# Altium footprint library footprints.PCBLIB: 199 footprints (part 12 of 13)
Each footprint in its own frame and in the unit in brackets; x right, y up, seen from the top. Pads: shape width x height; smd on the part's side, far side on the other; paste and mask are expansions set on the pad; w line width, h text height; cw(c..) or ccw(c..) is an arc to the next point about the centre after c.
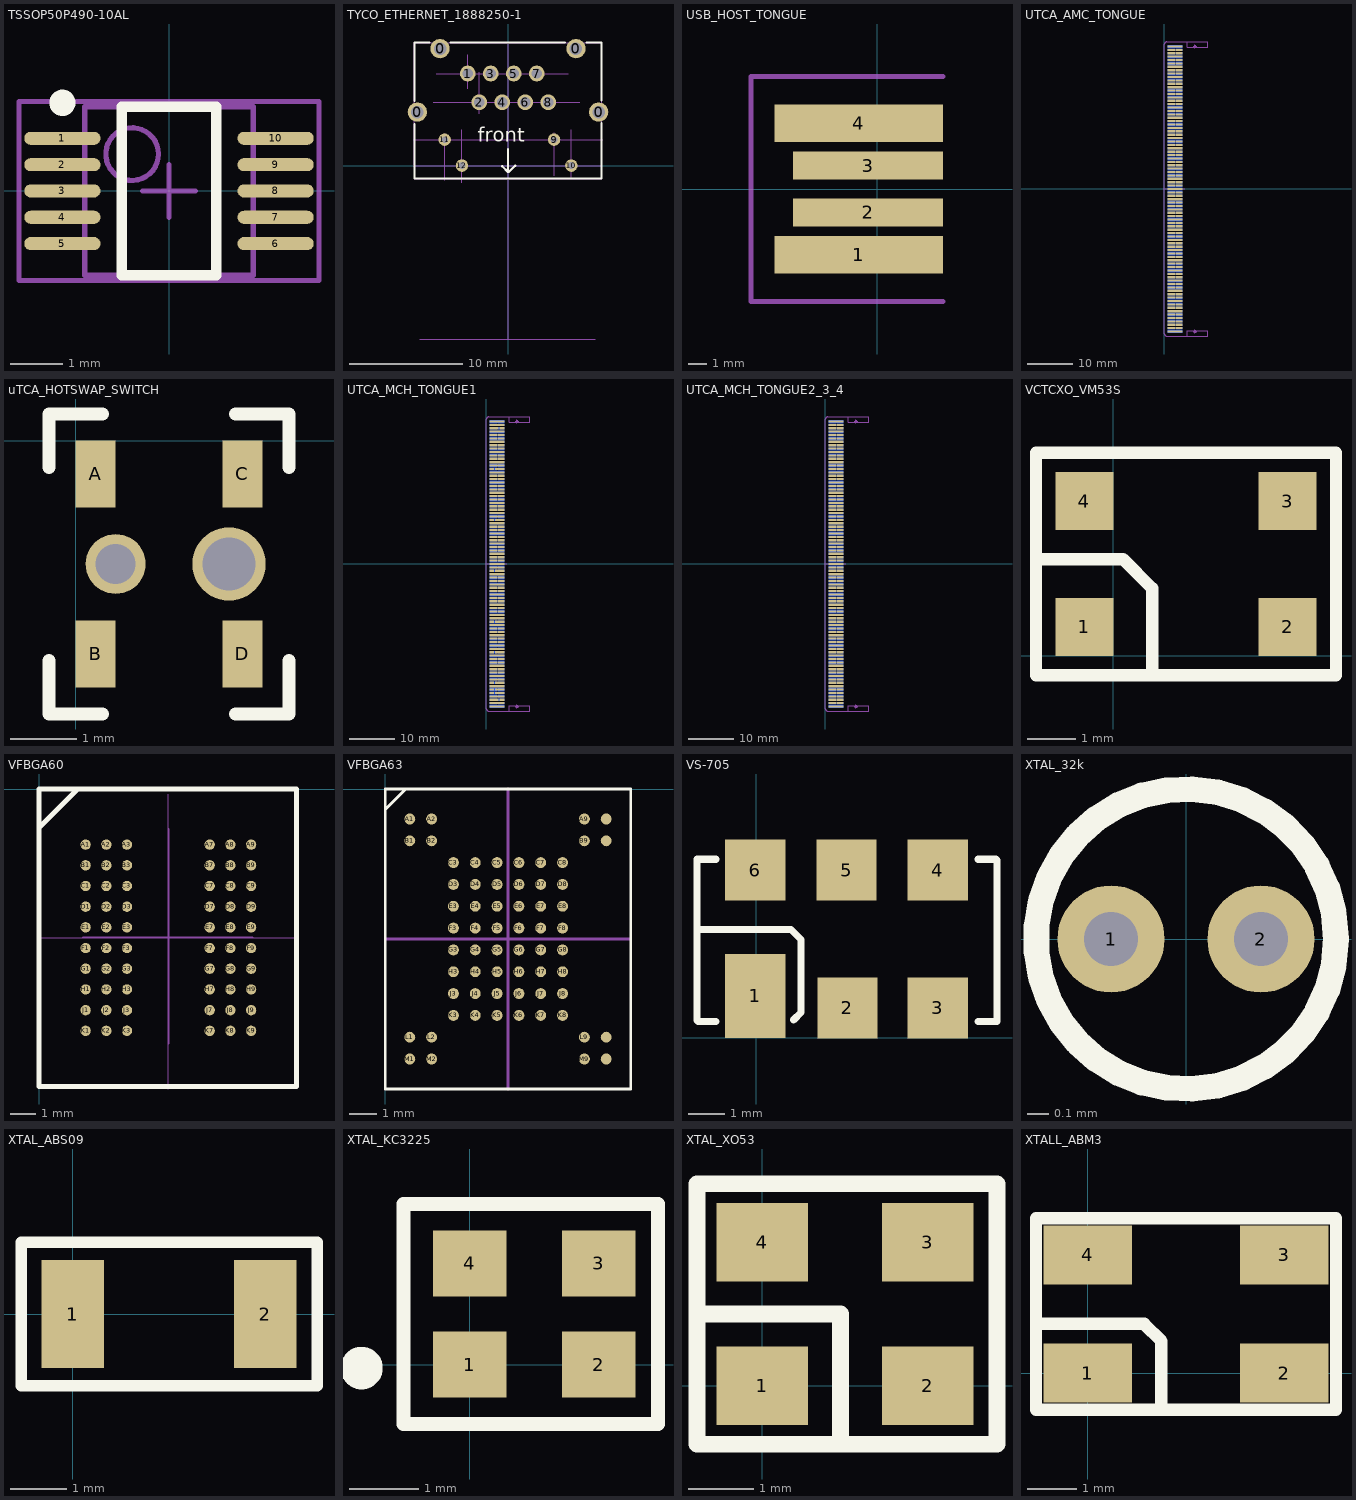
[diagram p11: the footprints below, top view; thin cyan lines are the x and y axes]

## TSSOP50P490-10AL [mm] "TSSOP, 10-Leads, Body 3x3mm, Pitch 0.5mm, IPC High Density"
height 1.1
pads (10):
  oval 1.45x0.25 smd: 1(-2.025,1) 2(-2.025,0.5) 3(-2.025,0) 4(-2.025,-0.5) 5(-2.025,-1) 6(2.025,-1) 7(2.025,-0.5) 8(2.025,0) 9(2.025,0.5) 10(2.025,1)
Top Overlay:
  circle w0.25: c-2.025,1.675 r0.125
  lines w0.2: -0.9,-1.6 -0.9,1.6 0.9,1.6 0.9,-1.6 -0.9,-1.6
Mechanical 13:
  circle w0.1: c-0.7,0.7 r0.5
  lines w0.1: -1.6,-1.6 -1.6,1.6 1.6,1.6 1.6,-1.6 -1.6,-1.6
Mechanical 15:
  lines w0.1: -0.5,0 0.5,0 ; 0,-0.5 0,0.5 ; -2.85,-1.7 -2.85,1.7 2.85,1.7 2.85,-1.7 -2.85,-1.7
3D body: height 1.1, standoff 0, extent -1.6,-1.6 1.6,1.6

## TYCO_ETHERNET_1888250-1 [mm]
pads (16):
  round 1.7 hole 1.1: 0(-8,4.726) 0(-6,10.326) 0(6,10.326) 0(8,4.726)
  round 1.4 hole 0.9: 1(-3.556,8.128) 2(-2.54,5.588) 3(-1.524,8.128) 4(-0.508,5.588) 5(0.508,8.128) 6(1.524,5.588) 7(2.54,8.128) 8(3.556,5.588)
  round 1.1 hole 0.6: 9(4.064,2.286) 10(5.588,0) 11(-5.588,2.286) 12(-4.064,0)
Top Overlay:
  lines w0.2: -8.255,-0.762 -8.255,3.683 ; -8.255,-0.699 -8.255,-1.143 8.255,-1.143 8.255,3.746 ; -8.255,5.715 -8.255,10.858 -6.921,10.858 ; -5.08,10.858 5.016,10.858 ; -0.508,-0.064 0,-0.572 ; 0,1.46 0,-0.572 ; 0.635,0 0.064,-0.572 0,-0.572 ; 6.921,10.858 8.255,10.858 8.255,5.779
  text "front" at -2.667,2.095 h1.27
Mechanical 1:
  lines w0.01: -7.81,-15.303 7.683,-15.303 ; 0,-15.303 0,10.858
  text "front panel" at 0.953,-14.986 h0.6
Mechanical 13:
  lines w0.01: -8.382,0 -0.254,0 8.255,0 8.255,10.858 -8.255,10.858 -8.255,0 ; -8.382,2.286 0.254,2.286 ; -8.255,-1.143 8.255,-1.143 ; -6.604,5.588 4.826,5.588 ; -6.35,8.128 5.334,8.128 ; -5.588,-1.27 -5.588,2.794 ; -4.064,-1.524 -4.064,0.127 ; -4.064,0 -4.064,3.175 ; -3.556,6.794 -3.556,8.572 ; -3.556,7.239 -3.556,9.779 ; -3.556,7.62 -3.556,8.826 -3.556,8.128 ; -2.54,4.572 -2.54,8.255 ; 0,-1.524 0,10.858 ; 0,2.286 8.382,2.286 ; 4.064,-0.889 4.064,2.921 ; 4.572,5.588 6.35,5.588 ; 5.588,-1.016 5.588,0.127 ; 5.588,0 5.588,3.175

## USB_HOST_TONGUE [mm]
pads (4):
  rect 9x2 smd: 1(-1,-3.5) 4(-1,3.5)
  rect 8x1.5 smd: 2(-0.5,-1.25) 3(-0.5,1.25)
Top Solder:
  rectangle: -6.75,-6 3.5,6
Mechanical 1:
  lines w0.254: -0.25,6 3.5,6 ; 0,6 -6.75,6 -6.75,-6 0,-6 3.5,-6

## UTCA_AMC_TONGUE [mm] "uTCA AMC1.0 AMC tongue connector"
pads (285):
  rect 3.3x0.48 smd paste-1000: 1(2.35,-31.5) 7(2.35,-27) 10(2.35,-24.75) 13(2.35,-22.5) 16(2.35,-20.25) 19(2.35,-18) 22(2.35,-15.75) 25(2.35,-13.5) 28(2.35,-11.25) 31(2.35,-9) 34(2.35,-6.75) 37(2.35,-4.5) 40(2.35,-2.25) 43(2.35,0) 46(2.35,2.25) 49(2.35,4.5) 52(2.35,6.75) 55(2.35,9) 58(2.35,11.25) 61(2.35,13.5) 64(2.35,15.75) 67(2.35,18) 70(2.35,20.25) 73(2.35,22.5) 76(2.35,24.75) 79(2.35,27) 82(2.35,29.25) 85(2.35,31.5)
  rect 1.4x0.48 smd paste-1000: 2(3.3,-30.75) 3(3.3,-30) 4(3.3,-29.25) 5(3.3,-28.5) 6(3.3,-27.75) 8(3.3,-26.25) 9(3.3,-25.5) 11(3.3,-24) 12(3.3,-23.25) 14(3.3,-21.75) 15(3.3,-21) 17(3.3,-19.5) 18(3.3,-18.75) 20(3.3,-17.25) 21(3.3,-16.5) 23(3.3,-15) 24(3.3,-14.25) 26(3.3,-12.75) 27(3.3,-12) 29(3.3,-10.5) 30(3.3,-9.75) 32(3.3,-8.25) 33(3.3,-7.5) 35(3.3,-6) 36(3.3,-5.25) 38(3.3,-3.75) 39(3.3,-3) 41(3.3,-1.5) 42(3.3,-0.75) 44(3.3,0.75) 45(3.3,1.5) 47(3.3,3) 48(3.3,3.75) 50(3.3,5.25) 51(3.3,6) 53(3.3,7.5) 54(3.3,8.25) 56(3.3,9.75) 57(3.3,10.5) 59(3.3,12) 60(3.3,12.75) 62(3.3,14.25) 63(3.3,15) 65(3.3,16.5) 66(3.3,17.25) 68(3.3,18.75) 69(3.3,19.5) 71(3.3,21) 72(3.3,21.75) 74(3.3,23.25) 75(3.3,24) 77(3.3,25.5) 78(3.3,26.25) 80(3.3,27.75) 81(3.3,28.5) 83(3.3,30) 84(3.3,30.75)
  rect 1.7x0.48 smd paste-1000: 3mate(1.55,-30.75) 3mate(1.55,-30) 3mate(1.55,-29.25) 3mate(1.55,-28.5) 3mate(1.55,-27.75) 3mate(1.55,-26.25) 3mate(1.55,-25.5) 3mate(1.55,-24) 3mate(1.55,-23.25) 3mate(1.55,-21.75) 3mate(1.55,-21) 3mate(1.55,-19.5) 3mate(1.55,-18.75) 3mate(1.55,-17.25) 3mate(1.55,-16.5) 3mate(1.55,-15) 3mate(1.55,-14.25) 3mate(1.55,-12.75) 3mate(1.55,-12) 3mate(1.55,-10.5) 3mate(1.55,-9.75) 3mate(1.55,-8.25) 3mate(1.55,-7.5) 3mate(1.55,-6) 3mate(1.55,-5.25) 3mate(1.55,-3.75) 3mate(1.55,-3) 3mate(1.55,-1.5) 3mate(1.55,-0.75) 3mate(1.55,0.75) 3mate(1.55,1.5) 3mate(1.55,3) 3mate(1.55,3.75) 3mate(1.55,5.25) 3mate(1.55,6) 3mate(1.55,7.5) 3mate(1.55,8.25) 3mate(1.55,9.75) 3mate(1.55,10.5) 3mate(1.55,12) 3mate(1.55,12.75) 3mate(1.55,14.25) 3mate(1.55,15) 3mate(1.55,16.5) 3mate(1.55,17.25) 3mate(1.55,18.75) 3mate(1.55,19.5) 3mate(1.55,21) 3mate(1.55,21.75) 3mate(1.55,23.25) 3mate(1.55,24) 3mate(1.55,25.5) 3mate(1.55,26.25) 3mate(1.55,27.75) 3mate(1.55,28.5) 3mate(1.55,30) 3mate(1.55,30.75)
  rect 1.7x0.48 smd far side paste-1000: 3mate(1.55,-30.75) 3mate(1.55,-30) 3mate(1.55,-29.25) 3mate(1.55,-28.5) 3mate(1.55,-27.75) 3mate(1.55,-26.25) 3mate(1.55,-25.5) 3mate(1.55,-24) 3mate(1.55,-23.25) 3mate(1.55,-21.75) 3mate(1.55,-21) 3mate(1.55,-19.5) 3mate(1.55,-18.75) 3mate(1.55,-17.25) 3mate(1.55,-16.5) 3mate(1.55,-15) 3mate(1.55,-14.25) 3mate(1.55,-12.75) 3mate(1.55,-12) 3mate(1.55,-10.5) 3mate(1.55,-9.75) 3mate(1.55,-8.25) 3mate(1.55,-7.5) 3mate(1.55,-6) 3mate(1.55,-5.25) 3mate(1.55,-3.75) 3mate(1.55,-3) 3mate(1.55,-1.5) 3mate(1.55,-0.75) 3mate(1.55,0.75) 3mate(1.55,1.5) 3mate(1.55,3) 3mate(1.55,3.75) 3mate(1.55,5.25) 3mate(1.55,6) 3mate(1.55,7.5) 3mate(1.55,8.25) 3mate(1.55,9.75) 3mate(1.55,10.5) 3mate(1.55,12) 3mate(1.55,12.75) 3mate(1.55,14.25) 3mate(1.55,15) 3mate(1.55,16.5) 3mate(1.55,17.25) 3mate(1.55,18.75) 3mate(1.55,19.5) 3mate(1.55,21) 3mate(1.55,21.75) 3mate(1.55,23.25) 3mate(1.55,24) 3mate(1.55,25.5) 3mate(1.55,26.25) 3mate(1.55,27.75) 3mate(1.55,28.5) 3mate(1.55,30) 3mate(1.55,30.75)
  rect 3.3x0.48 smd far side paste-1000: 86(2.35,31.5) 89(2.35,29.25) 92(2.35,27) 95(2.35,24.75) 98(2.35,22.5) 101(2.35,20.25) 104(2.35,18) 107(2.35,15.75) 110(2.35,13.5) 113(2.35,11.25) 116(2.35,9) 119(2.35,6.75) 122(2.35,4.5) 125(2.35,2.25) 128(2.35,0) 131(2.35,-2.25) 134(2.35,-4.5) 137(2.35,-6.75) 140(2.35,-9) 143(2.35,-11.25) 146(2.35,-13.5) 149(2.35,-15.75) 152(2.35,-18) 155(2.35,-20.25) 158(2.35,-22.5) 161(2.35,-24.75) 164(2.35,-27) 170(2.35,-31.5)
  rect 1.4x0.48 smd far side paste-1000: 87(3.3,30.75) 88(3.3,30) 90(3.3,28.5) 91(3.3,27.75) 93(3.3,26.25) 94(3.3,25.5) 96(3.3,24) 97(3.3,23.25) 99(3.3,21.75) 100(3.3,21) 102(3.3,19.5) 103(3.3,18.75) 105(3.3,17.25) 106(3.3,16.5) 108(3.3,15) 109(3.3,14.25) 111(3.3,12.75) 112(3.3,12) 114(3.3,10.5) 115(3.3,9.75) 117(3.3,8.25) 118(3.3,7.5) 120(3.3,6) 121(3.3,5.25) 123(3.3,3.75) 124(3.3,3) 126(3.3,1.5) 127(3.3,0.75) 129(3.3,-0.75) 130(3.3,-1.5) 132(3.3,-3) 133(3.3,-3.75) 135(3.3,-5.25) 136(3.3,-6) 138(3.3,-7.5) 139(3.3,-8.25) 141(3.3,-9.75) 142(3.3,-10.5) 144(3.3,-12) 145(3.3,-12.75) 147(3.3,-14.25) 148(3.3,-15) 150(3.3,-16.5) 151(3.3,-17.25) 153(3.3,-18.75) 154(3.3,-19.5) 156(3.3,-21) 157(3.3,-21.75) 159(3.3,-23.25) 160(3.3,-24) 162(3.3,-25.5) 163(3.3,-26.25) 165(3.3,-27.75) 166(3.3,-28.5) 167(3.3,-29.25) 168(3.3,-30) 169(3.3,-30.75)
  rect 1.4x0.48 on Bottom Solder paste-1000: 138(3.3,-7.5)
Top Solder:
  rectangle: 0,-32.5 4.7,32.5
Bottom Solder:
  rectangle: 0,-32.5 4.7,32.5
Mechanical 1:
  lines w0.01: 9.55,-32.5 0.5,-32.5 cw(c0.5,-32) 0,-32 0,32 cw(c0.5,32) 0.5,32.5 9.55,32.5
Mechanical 15:
  circle w0.01: c6.75,-31.5 r0.2
  circle w0.01: c6.75,31.5 r0.2
  lines w0.01: 0,0 0.7,0 ; 0.5,0 4.5,0 ; 6.35,-31.5 7.2,-31.5 ; 6.35,31.5 7.2,31.5 ; 6.75,-31.9 6.75,-31.1 ; 6.75,31.1 6.75,31.9 ; 5,-32.5 9.55,-32.5 9.55,-31.3 5,-31.3 5,-32.5 ; 5,31.3 5,32.5 9.55,32.5 9.55,31.3 5,31.3

## uTCA_HOTSWAP_SWITCH [mm]
pads (6):
  rect 0.6x1 smd: A(0.3,-0.5) B(0.3,-3.2) C(2.5,-0.5) D(2.5,-3.2)
  round 0.9 hole 0.6 unplated: ""(0.6,-1.85)
  round 1.1 hole 0.8 unplated: ""(2.3,-1.85)
Top Overlay:
  lines w0.2: -0.4,-3.3 -0.4,-4.1 0.4,-4.1 -0.3,-4.1 ; -0.4,0.3 -0.4,-0.4 -0.4,0.4 0.4,0.4 ; 2.4,-4.1 3.2,-4.1 3.2,-3.3 3.2,-4 ; 3.1,0.4 2.4,0.4 3.2,0.4 3.2,-0.4

## UTCA_MCH_TONGUE1 [mm] "uTCA MTCA.0 MCH tongue connector"
pads (276):
  rect 3.3x0.48 smd: 1(2.35,-31.5) 2(2.35,-30.75) 4(2.35,-29.25) 7(2.35,-27) 9(2.35,-25.5) 10(2.35,-24.75) 13(2.35,-22.5) 16(2.35,-20.25) 18(2.35,-18.75) 19(2.35,-18) 22(2.35,-15.75) 25(2.35,-13.5) 27(2.35,-12) 28(2.35,-11.25) 31(2.35,-9) 34(2.35,-6.75) 37(2.35,-4.5) 40(2.35,-2.25) 42(2.35,-0.75) 43(2.35,0) 46(2.35,2.25) 49(2.35,4.5) 52(2.35,6.75) 55(2.35,9) 57(2.35,10.5) 58(2.35,11.25) 61(2.35,13.5) 64(2.35,15.75) 67(2.35,18) 70(2.35,20.25) 72(2.35,21.75) 73(2.35,22.5) 76(2.35,24.75) 79(2.35,27) 82(2.35,29.25) 84(2.35,30.75) 85(2.35,31.5)
  rect 0.95x0.48 smd: 2mate(1.175,-19.5) 2mate(1.175,-12.75) 2mate(1.175,-1.5) 2mate(1.175,9.75) 2mate(1.175,21) 2mate(1.175,-28.5) 2mate(1.175,-27.75) 2mate(1.175,-26.25)
  rect 1.1x0.48 smd: 3(3.45,-30) 83(3.45,30)
  rect 1.7x0.48 smd: 3mate(1.55,-24) 3mate(1.55,-23.25) 3mate(1.55,-21.75) 3mate(1.55,-21) 3mate(1.55,-17.25) 3mate(1.55,-16.5) 3mate(1.55,-15) 3mate(1.55,-14.25) 3mate(1.55,-10.5) 3mate(1.55,-9.75) 3mate(1.55,-8.25) 3mate(1.55,-7.5) 3mate(1.55,-6) 3mate(1.55,-5.25) 3mate(1.55,-3.75) 3mate(1.55,-3) 3mate(1.55,0.75) 3mate(1.55,1.5) 3mate(1.55,3) 3mate(1.55,3.75) 3mate(1.55,5.25) 3mate(1.55,6) 3mate(1.55,7.5) 3mate(1.55,8.25) 3mate(1.55,12) 3mate(1.55,12.75) 3mate(1.55,14.25) 3mate(1.55,15) 3mate(1.55,16.5) 3mate(1.55,17.25) 3mate(1.55,18.75) 3mate(1.55,19.5) 3mate(1.55,23.25) 3mate(1.55,24) 3mate(1.55,25.5) 3mate(1.55,26.25) 3mate(1.55,27.75) 3mate(1.55,28.5)
  rect 1.7x0.48 smd far side: 3mate(1.55,-30.75) 3mate(1.55,-30) 3mate(1.55,-29.25) 3mate(1.55,-28.5) 3mate(1.55,-27.75) 3mate(1.55,-26.25) 3mate(1.55,-25.5) 3mate(1.55,-24) 3mate(1.55,-23.25) 3mate(1.55,-21.75) 3mate(1.55,-21) 3mate(1.55,-19.5) 3mate(1.55,-18.75) 3mate(1.55,-17.25) 3mate(1.55,-16.5) 3mate(1.55,-15) 3mate(1.55,-14.25) 3mate(1.55,-12.75) 3mate(1.55,-12) 3mate(1.55,-10.5) 3mate(1.55,-9.75) 3mate(1.55,-8.25) 3mate(1.55,-7.5) 3mate(1.55,-6) 3mate(1.55,-5.25) 3mate(1.55,-3.75) 3mate(1.55,-3) 3mate(1.55,-1.5) 3mate(1.55,-0.75) 3mate(1.55,0.75) 3mate(1.55,1.5) 3mate(1.55,3) 3mate(1.55,3.75) 3mate(1.55,5.25) 3mate(1.55,6) 3mate(1.55,7.5) 3mate(1.55,8.25) 3mate(1.55,9.75) 3mate(1.55,10.5) 3mate(1.55,12) 3mate(1.55,12.75) 3mate(1.55,14.25) 3mate(1.55,15) 3mate(1.55,16.5) 3mate(1.55,17.25) 3mate(1.55,18.75) 3mate(1.55,19.5) 3mate(1.55,21) 3mate(1.55,21.75) 3mate(1.55,23.25) 3mate(1.55,24) 3mate(1.55,25.5) 3mate(1.55,26.25) 3mate(1.55,27.75) 3mate(1.55,28.5) 3mate(1.55,30) 3mate(1.55,30.75)
  rect 2.15x0.48 smd: 5(2.925,-28.5) 6(2.925,-27.75) 8(2.925,-26.25) 17(2.925,-19.5) 26(2.925,-12.75) 41(2.925,-1.5) 56(2.925,9.75) 71(2.925,21)
  rect 1.4x0.48 smd: 11(3.3,-24) 12(3.3,-23.25) 14(3.3,-21.75) 15(3.3,-21) 20(3.3,-17.25) 21(3.3,-16.5) 23(3.3,-15) 24(3.3,-14.25) 29(3.3,-10.5) 30(3.3,-9.75) 32(3.3,-8.25) 33(3.3,-7.5) 35(3.3,-6) 36(3.3,-5.25) 38(3.3,-3.75) 39(3.3,-3) 44(3.3,0.75) 45(3.3,1.5) 47(3.3,3) 48(3.3,3.75) 50(3.3,5.25) 51(3.3,6) 53(3.3,7.5) 54(3.3,8.25) 59(3.3,12) 60(3.3,12.75) 62(3.3,14.25) 63(3.3,15) 65(3.3,16.5) 66(3.3,17.25) 68(3.3,18.75) 69(3.3,19.5) 74(3.3,23.25) 75(3.3,24) 77(3.3,25.5) 78(3.3,26.25) 80(3.3,27.75) 81(3.3,28.5)
  rect 3.3x0.48 smd far side: 86(2.35,31.5) 89(2.35,29.25) 92(2.35,27) 95(2.35,24.75) 98(2.35,22.5) 101(2.35,20.25) 104(2.35,18) 107(2.35,15.75) 110(2.35,13.5) 113(2.35,11.25) 116(2.35,9) 119(2.35,6.75) 122(2.35,4.5) 125(2.35,2.25) 128(2.35,0) 131(2.35,-2.25) 134(2.35,-4.5) 137(2.35,-6.75) 140(2.35,-9) 143(2.35,-11.25) 146(2.35,-13.5) 149(2.35,-15.75) 152(2.35,-18) 155(2.35,-20.25) 158(2.35,-22.5) 161(2.35,-24.75) 164(2.35,-27) 170(2.35,-31.5)
  rect 1.4x0.48 smd far side: 87(3.3,30.75) 88(3.3,30) 90(3.3,28.5) 91(3.3,27.75) 93(3.3,26.25) 94(3.3,25.5) 96(3.3,24) 97(3.3,23.25) 99(3.3,21.75) 100(3.3,21) 102(3.3,19.5) 103(3.3,18.75) 105(3.3,17.25) 106(3.3,16.5) 108(3.3,15) 109(3.3,14.25) 111(3.3,12.75) 112(3.3,12) 114(3.3,10.5) 115(3.3,9.75) 117(3.3,8.25) 118(3.3,7.5) 120(3.3,6) 121(3.3,5.25) 123(3.3,3.75) 124(3.3,3) 126(3.3,1.5) 127(3.3,0.75) 129(3.3,-0.75) 130(3.3,-1.5) 132(3.3,-3) 133(3.3,-3.75) 135(3.3,-5.25) 136(3.3,-6) 138(3.3,-7.5) 139(3.3,-8.25) 141(3.3,-9.75) 142(3.3,-10.5) 144(3.3,-12) 145(3.3,-12.75) 147(3.3,-14.25) 148(3.3,-15) 150(3.3,-16.5) 151(3.3,-17.25) 153(3.3,-18.75) 154(3.3,-19.5) 156(3.3,-21) 157(3.3,-21.75) 159(3.3,-23.25) 160(3.3,-24) 162(3.3,-25.5) 163(3.3,-26.25) 165(3.3,-27.75) 166(3.3,-28.5) 167(3.3,-29.25) 168(3.3,-30) 169(3.3,-30.75)
  rect 1.4x0.48 on Bottom Solder: 138(3.3,-7.5)
  rect 2x0.48 smd: lmate(1.7,30) lmate(1.7,-30)
Top Solder:
  rectangle: 0,-32.5 4.7,32.5
Bottom Solder:
  rectangle: 0,-32.5 4.7,32.5
Mechanical 1:
  lines w0.01: 9.55,-32.5 0.5,-32.5 cw(c0.5,-32) 0,-32 0,32 cw(c0.5,32) 0.5,32.5 9.55,32.5
Mechanical 15:
  circle w0.01: c6.75,31.5 r0.2
  circle w0.01: c6.75,-31.5 r0.2
  lines w0.01: 0,0 0.7,0 ; 0.5,0 4.5,0 ; 6.35,-31.5 7.2,-31.5 ; 6.35,31.5 7.2,31.5 ; 6.75,-31.9 6.75,-31.1 ; 6.75,31.1 6.75,31.9 ; 5,-32.5 5,-31.3 9.55,-31.3 9.55,-32.5 5,-32.5 ; 5,31.3 9.55,31.3 9.55,32.5 5,32.5 5,31.3

## UTCA_MCH_TONGUE2_3_4 [mm] "uTCA MTCA.0 MCH tongue connector"
pads (285):
  rect 3.3x0.48 smd paste-1000: 1(2.35,-31.5) 7(2.35,-27) 10(2.35,-24.75) 13(2.35,-22.5) 16(2.35,-20.25) 19(2.35,-18) 22(2.35,-15.75) 25(2.35,-13.5) 28(2.35,-11.25) 31(2.35,-9) 34(2.35,-6.75) 37(2.35,-4.5) 40(2.35,-2.25) 43(2.35,0) 46(2.35,2.25) 49(2.35,4.5) 52(2.35,6.75) 55(2.35,9) 58(2.35,11.25) 61(2.35,13.5) 64(2.35,15.75) 67(2.35,18) 70(2.35,20.25) 73(2.35,22.5) 76(2.35,24.75) 79(2.35,27) 82(2.35,29.25) 85(2.35,31.5)
  rect 1.4x0.48 smd paste-1000: 2(3.3,-30.75) 3(3.3,-30) 4(3.3,-29.25) 5(3.3,-28.5) 6(3.3,-27.75) 8(3.3,-26.25) 9(3.3,-25.5) 11(3.3,-24) 12(3.3,-23.25) 14(3.3,-21.75) 15(3.3,-21) 17(3.3,-19.5) 18(3.3,-18.75) 20(3.3,-17.25) 21(3.3,-16.5) 23(3.3,-15) 24(3.3,-14.25) 26(3.3,-12.75) 27(3.3,-12) 29(3.3,-10.5) 30(3.3,-9.75) 32(3.3,-8.25) 33(3.3,-7.5) 35(3.3,-6) 36(3.3,-5.25) 38(3.3,-3.75) 39(3.3,-3) 41(3.3,-1.5) 42(3.3,-0.75) 44(3.3,0.75) 45(3.3,1.5) 47(3.3,3) 48(3.3,3.75) 50(3.3,5.25) 51(3.3,6) 53(3.3,7.5) 54(3.3,8.25) 56(3.3,9.75) 57(3.3,10.5) 59(3.3,12) 60(3.3,12.75) 62(3.3,14.25) 63(3.3,15) 65(3.3,16.5) 66(3.3,17.25) 68(3.3,18.75) 69(3.3,19.5) 71(3.3,21) 72(3.3,21.75) 74(3.3,23.25) 75(3.3,24) 77(3.3,25.5) 78(3.3,26.25) 80(3.3,27.75) 81(3.3,28.5) 83(3.3,30) 84(3.3,30.75)
  rect 1.7x0.48 smd paste-1000: 3mate(1.55,-30.75) 3mate(1.55,-30) 3mate(1.55,-29.25) 3mate(1.55,-28.5) 3mate(1.55,-27.75) 3mate(1.55,-26.25) 3mate(1.55,-25.5) 3mate(1.55,-24) 3mate(1.55,-23.25) 3mate(1.55,-21.75) 3mate(1.55,-21) 3mate(1.55,-19.5) 3mate(1.55,-18.75) 3mate(1.55,-17.25) 3mate(1.55,-16.5) 3mate(1.55,-15) 3mate(1.55,-14.25) 3mate(1.55,-12.75) 3mate(1.55,-12) 3mate(1.55,-10.5) 3mate(1.55,-9.75) 3mate(1.55,-8.25) 3mate(1.55,-7.5) 3mate(1.55,-6) 3mate(1.55,-5.25) 3mate(1.55,-3.75) 3mate(1.55,-3) 3mate(1.55,-1.5) 3mate(1.55,-0.75) 3mate(1.55,0.75) 3mate(1.55,1.5) 3mate(1.55,3) 3mate(1.55,3.75) 3mate(1.55,5.25) 3mate(1.55,6) 3mate(1.55,7.5) 3mate(1.55,8.25) 3mate(1.55,9.75) 3mate(1.55,10.5) 3mate(1.55,12) 3mate(1.55,12.75) 3mate(1.55,14.25) 3mate(1.55,15) 3mate(1.55,16.5) 3mate(1.55,17.25) 3mate(1.55,18.75) 3mate(1.55,19.5) 3mate(1.55,21) 3mate(1.55,21.75) 3mate(1.55,23.25) 3mate(1.55,24) 3mate(1.55,25.5) 3mate(1.55,26.25) 3mate(1.55,27.75) 3mate(1.55,28.5) 3mate(1.55,30) 3mate(1.55,30.75)
  rect 1.7x0.48 smd far side paste-1000: 3mate(1.55,-30.75) 3mate(1.55,-30) 3mate(1.55,-29.25) 3mate(1.55,-28.5) 3mate(1.55,-27.75) 3mate(1.55,-26.25) 3mate(1.55,-25.5) 3mate(1.55,-24) 3mate(1.55,-23.25) 3mate(1.55,-21.75) 3mate(1.55,-21) 3mate(1.55,-19.5) 3mate(1.55,-18.75) 3mate(1.55,-17.25) 3mate(1.55,-16.5) 3mate(1.55,-15) 3mate(1.55,-14.25) 3mate(1.55,-12.75) 3mate(1.55,-12) 3mate(1.55,-10.5) 3mate(1.55,-9.75) 3mate(1.55,-8.25) 3mate(1.55,-7.5) 3mate(1.55,-6) 3mate(1.55,-5.25) 3mate(1.55,-3.75) 3mate(1.55,-3) 3mate(1.55,-1.5) 3mate(1.55,-0.75) 3mate(1.55,0.75) 3mate(1.55,1.5) 3mate(1.55,3) 3mate(1.55,3.75) 3mate(1.55,5.25) 3mate(1.55,6) 3mate(1.55,7.5) 3mate(1.55,8.25) 3mate(1.55,9.75) 3mate(1.55,10.5) 3mate(1.55,12) 3mate(1.55,12.75) 3mate(1.55,14.25) 3mate(1.55,15) 3mate(1.55,16.5) 3mate(1.55,17.25) 3mate(1.55,18.75) 3mate(1.55,19.5) 3mate(1.55,21) 3mate(1.55,21.75) 3mate(1.55,23.25) 3mate(1.55,24) 3mate(1.55,25.5) 3mate(1.55,26.25) 3mate(1.55,27.75) 3mate(1.55,28.5) 3mate(1.55,30) 3mate(1.55,30.75)
  rect 3.3x0.48 smd far side paste-1000: 86(2.35,31.5) 89(2.35,29.25) 92(2.35,27) 95(2.35,24.75) 98(2.35,22.5) 101(2.35,20.25) 104(2.35,18) 107(2.35,15.75) 110(2.35,13.5) 113(2.35,11.25) 116(2.35,9) 119(2.35,6.75) 122(2.35,4.5) 125(2.35,2.25) 128(2.35,0) 131(2.35,-2.25) 134(2.35,-4.5) 137(2.35,-6.75) 140(2.35,-9) 143(2.35,-11.25) 146(2.35,-13.5) 149(2.35,-15.75) 152(2.35,-18) 155(2.35,-20.25) 158(2.35,-22.5) 161(2.35,-24.75) 164(2.35,-27) 170(2.35,-31.5)
  rect 1.4x0.48 smd far side paste-1000: 87(3.3,30.75) 88(3.3,30) 90(3.3,28.5) 91(3.3,27.75) 93(3.3,26.25) 94(3.3,25.5) 96(3.3,24) 97(3.3,23.25) 99(3.3,21.75) 100(3.3,21) 102(3.3,19.5) 103(3.3,18.75) 105(3.3,17.25) 106(3.3,16.5) 108(3.3,15) 109(3.3,14.25) 111(3.3,12.75) 112(3.3,12) 114(3.3,10.5) 115(3.3,9.75) 117(3.3,8.25) 118(3.3,7.5) 120(3.3,6) 121(3.3,5.25) 123(3.3,3.75) 124(3.3,3) 126(3.3,1.5) 127(3.3,0.75) 129(3.3,-0.75) 130(3.3,-1.5) 132(3.3,-3) 133(3.3,-3.75) 135(3.3,-5.25) 136(3.3,-6) 138(3.3,-7.5) 139(3.3,-8.25) 141(3.3,-9.75) 142(3.3,-10.5) 144(3.3,-12) 145(3.3,-12.75) 147(3.3,-14.25) 148(3.3,-15) 150(3.3,-16.5) 151(3.3,-17.25) 153(3.3,-18.75) 154(3.3,-19.5) 156(3.3,-21) 157(3.3,-21.75) 159(3.3,-23.25) 160(3.3,-24) 162(3.3,-25.5) 163(3.3,-26.25) 165(3.3,-27.75) 166(3.3,-28.5) 167(3.3,-29.25) 168(3.3,-30) 169(3.3,-30.75)
  rect 1.4x0.48 on Bottom Solder paste-1000: 138(3.3,-7.5)
Top Solder:
  rectangle: 0,-32.5 4.7,32.5
Bottom Solder:
  rectangle: 0,-32.5 4.7,32.5
Mechanical 1:
  lines w0.01: 9.55,-32.5 0.5,-32.5 cw(c0.5,-32) 0,-32 0,32 cw(c0.5,32) 0.5,32.5 9.55,32.5
Mechanical 15:
  circle w0.01: c6.75,-31.5 r0.2
  circle w0.01: c6.75,31.5 r0.2
  lines w0.01: 0,0 0.7,0 ; 0.5,0 4.5,0 ; 6.35,-31.5 7.2,-31.5 ; 6.35,31.5 7.2,31.5 ; 6.75,-31.9 6.75,-31.1 ; 6.75,31.1 6.75,31.9 ; 5,-32.5 9.55,-32.5 9.55,-31.3 5,-31.3 5,-32.5 ; 5,31.3 5,32.5 9.55,32.5 9.55,31.3 5,31.3

## VCTCXO_VM53S [mm]
pads (4):
  rect 1.2x1.2 smd: 1(-0.6,0.6) 2(3.6,0.6) 3(3.6,3.2) 4(-0.6,3.2)
Top Overlay:
  lines w0.254: 0.8,-0.4 0.8,1.4 0.2,2 -1.6,2 -1.6,4.2 ; -1.6,4.2 4.6,4.2 4.6,-0.4 -1.6,-0.4 -1.6,4.2

## VFBGA60 [mm]
pads (60):
  round 0.4 smd: A1(1.8,-2.15) A2(2.6,-2.15) A3(3.4,-2.15) A7(6.6,-2.15) A8(7.4,-2.15) A9(8.2,-2.15) B1(1.8,-2.95) B2(2.6,-2.95) B3(3.4,-2.95) B7(6.6,-2.95) B8(7.4,-2.95) B9(8.2,-2.95) C1(1.8,-3.75) C2(2.6,-3.75) C3(3.4,-3.75) C7(6.6,-3.75) C8(7.4,-3.75) C9(8.2,-3.75) D1(1.8,-4.55) D2(2.6,-4.55) D3(3.4,-4.55) D7(6.6,-4.55) D8(7.4,-4.55) D9(8.2,-4.55) E1(1.8,-5.35) E2(2.6,-5.35) E3(3.4,-5.35) E7(6.6,-5.35) E8(7.4,-5.35) E9(8.2,-5.35) F1(1.8,-6.15) F2(2.6,-6.15) F3(3.4,-6.15) F7(6.6,-6.15) F8(7.4,-6.15) F9(8.2,-6.15) G1(1.8,-6.95) G2(2.6,-6.95) G3(3.4,-6.95) G7(6.6,-6.95) G8(7.4,-6.95) G9(8.2,-6.95) H1(1.8,-7.75) H2(2.6,-7.75) H3(3.4,-7.75) H7(6.6,-7.75) H8(7.4,-7.75) H9(8.2,-7.75) J1(1.8,-8.55) J2(2.6,-8.55) J3(3.4,-8.55) J7(6.6,-8.55) J8(7.4,-8.55) J9(8.2,-8.55) K1(1.8,-9.35) K2(2.6,-9.35) K3(3.4,-9.35) K7(6.6,-9.35) K8(7.4,-9.35) K9(8.2,-9.35)
Top Overlay:
  lines w0.2: 0,-1.5 1.5,0 ; 0,-11.5 9.95,-11.5 9.95,0 0,0 0,-11.5
Mechanical 15:
  lines w0.02: 0.05,-5.75 10.05,-5.75 ; 5,-11.6 5,-0.2
  lines w0.076: 1.7,-5.75 8.25,-5.75 ; 5,-9.85 5,-9.4 5,-1.55

## VFBGA63 [mm]
pads (64):
  round 0.4 smd: A1(0.9,-1.1) A2(1.7,-1.1) A9(7.3,-1.1) A10(8.1,-1.1) B1(0.9,-1.9) B2(1.7,-1.9) B9(7.3,-1.9) B10(8.1,-1.9) C3(2.5,-2.7) C4(3.3,-2.7) C5(4.1,-2.7) C6(4.9,-2.7) C7(5.7,-2.7) C8(6.5,-2.7) D3(2.5,-3.5) D4(3.3,-3.5) D5(4.1,-3.5) D6(4.9,-3.5) D7(5.7,-3.5) D8(6.5,-3.5) E3(2.5,-4.3) E4(3.3,-4.3) E5(4.1,-4.3) E6(4.9,-4.3) E7(5.7,-4.3) E8(6.5,-4.3) F3(2.5,-5.1) F4(3.3,-5.1) F5(4.1,-5.1) F6(4.9,-5.1) F7(5.7,-5.1) F8(6.5,-5.1) G3(2.5,-5.9) G4(3.3,-5.9) G5(4.1,-5.9) G6(4.9,-5.9) G7(5.7,-5.9) G8(6.5,-5.9) H3(2.5,-6.7) H4(3.3,-6.7) H5(4.1,-6.7) H6(4.9,-6.7) H7(5.7,-6.7) H8(6.5,-6.7) J3(2.5,-7.5) J4(3.3,-7.5) J5(4.1,-7.5) J6(4.9,-7.5) J7(5.7,-7.5) J8(6.5,-7.5) K3(2.5,-8.3) K4(3.3,-8.3) K5(4.1,-8.3) K6(4.9,-8.3) K7(5.7,-8.3) K8(6.5,-8.3) L1(0.9,-9.1) L2(1.7,-9.1) L9(7.3,-9.1) L10(8.1,-9.1) M1(0.9,-9.9) M2(1.7,-9.9) M9(7.3,-9.9) M10(8.1,-9.9)
Top Overlay:
  lines w0.1: 0,-0.75 0.75,0 ; 0,-11 0,0 9,0 9,-11 0,-11
Mechanical 15:
  lines w0.1: 0,-5.5 9,-5.5 ; 4.2,-5.5 4.8,-5.5 ; 4.5,-11 4.5,0 ; 4.5,-6.15 4.5,-4.85

## VS-705 [mm]
pads (6):
  rect 1.68x2.34 smd: 1(-0.025,1.168)
  rect 1.68x1.7 smd: 2(2.54,0.838) 3(5.055,0.838) 4(5.055,4.674) 5(2.515,4.674) 6(-0.025,4.674)
Top Overlay:
  lines w0.2: -1.651,3.023 0.965,3.023 1.245,2.743 1.245,0.711 1.041,0.508 ; -1.118,0.457 -1.626,0.457 -1.651,0.483 -1.651,4.978 -1.118,4.978 ; 6.172,0.457 6.706,0.457 6.706,4.953 6.68,4.978 6.172,4.978

## XTAL_32k [mm]
pads (2):
  round 0.5 hole 0.25: 1(-0.35,0) 2(0.35,0)
Top Overlay:
  circle w0.12: c0,0 r0.7

## XTAL_ABS09 [mm]
pads (2):
  rect 1.1x1.9 smd: 1(0,0) 2(3.4,0)
Top Overlay:
  lines w0.203: -0.914,-1.27 -0.914,1.27 4.318,1.27 4.318,-1.27 -0.914,-1.27

## XTAL_KC3225 [mm]
pads (4):
  rect 1.05x0.95 smd: 1(0,0) 2(1.85,0) 3(1.85,1.45) 4(0,1.45)
Top Overlay:
  circle w0.508: c-1.55,-0.05 r0.05
  lines w0.203: -0.95,1 -0.95,2.3 2.7,2.3 2.7,-0.85 -0.95,-0.85 -0.95,1.3

## XTAL_XO53 [mm]
pads (4):
  rect 1.4x1.2 smd: 1(0,0) 2(2.54,0) 3(2.54,2.2) 4(0,2.2)
Top Overlay:
  lines w0.254: 1.2,-0.9 1.2,1.1 -1,1.1 -1,3.1 ; -1,3.1 3.6,3.1 3.6,-0.9 -1,-0.9 -1,3.1

## XTALL_ABM3 [mm] "Abracon ABM3 xtal series"
pads (4):
  rect 1.8x1.2 smd: 1(0,0) 2(4,0) 3(4,2.4) 4(0,2.4)
Top Overlay:
  lines w0.254: -1.05,1 1.15,1 1.5,0.65 1.5,-0.75 ; 5,3.15 -1.05,3.15 -1.05,-0.75 5,-0.75 5.05,-0.75 5.05,3.15